# EAGLE library part ETHBUCHSE (library mylib)
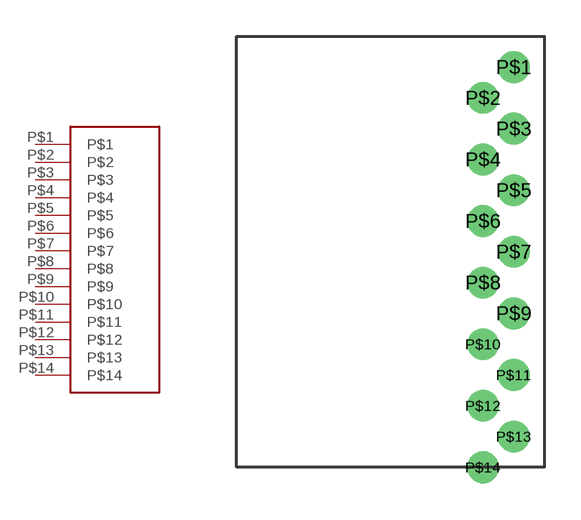
[diagram p4: symbol with the pads of ETHBUCHSE; footprint ETHBUCHSE]

Designator prefix -

## ETHBUCHSE  [ETHBUCHSE]
P$1  P$1
P$2  P$2
P$3  P$3
P$4  P$4
P$5  P$5
P$6  P$6
P$7  P$7
P$8  P$8
P$9  P$9
P$10  P$10
P$11  P$11
P$12  P$12
P$13  P$13
P$14  P$14

## Footprint ETHBUCHSE (pad centres in mm)
drill 0.8: P$1 11.43,10.16; P$2 10.16,8.89; P$3 11.43,7.62; P$4 10.16,6.35; P$5 11.43,5.08; P$6 10.16,3.81; P$7 11.43,2.54; P$8 10.16,1.27; P$9 11.43,0; P$10 10.16,-1.27; P$11 11.43,-2.54; P$12 10.16,-3.81; P$13 11.43,-5.08; P$14 10.16,-6.35